# Altium footprint library PcbLib1.PcbLib: 1 footprints
Each footprint in its own frame and in the unit in brackets; x right, y up, seen from the top. Pads: shape width x height; smd on the part's side, far side on the other; paste and mask are expansions set on the pad; w line width, h text height; cw(c..) or ccw(c..) is an arc to the next point about the centre after c.
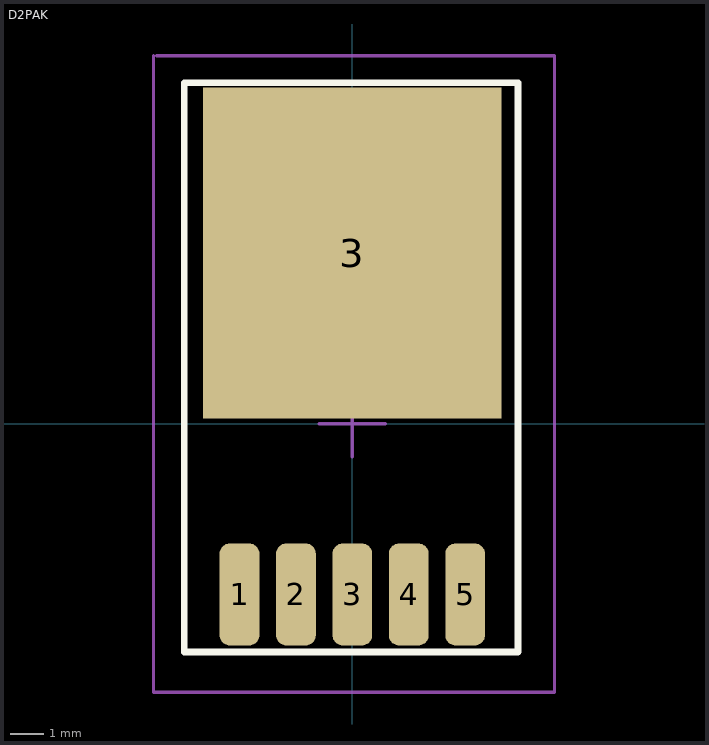
[diagram p0: the footprint, top view; thin cyan lines are the x and y axes]

## D2PAK [mm]
pads (6):
  rrect50% 1.2x3.075 smd mask+0.05: 1(-3.404,-5.15) 2(-1.702,-5.15) 3(0,-5.15) 4(1.702,-5.15) 5(3.404,-5.15)
  rect 9x10 smd mask+0.05: 3(0,5.15)
Top Overlay:
  lines w0.2: -5.071,-6.887 5,-6.887 5,10.282 -5.071,10.282 -5.071,8.263 -5.071,-6.887
Mechanical 15 (Mech15):
  lines w0.1: -6,11.1 -6,-8.1 6.1,-8.1 6.1,11.1 -5.9,11.1 ; -1,0 1,0 ; 0,-1 0,1
3D body "TO263-5-1.stp": height 4.22, standoff 0, extent -4.922,-5.751 4.9,8.851